# EAGLE library part AK500/10 (library con-ptr500+)
CONNECTOR
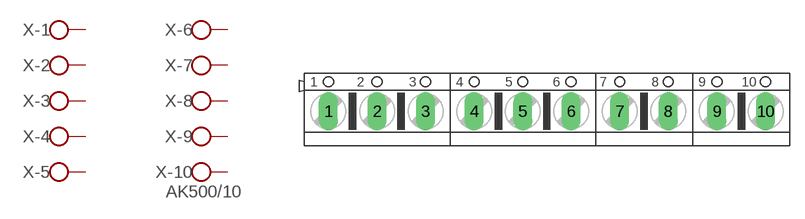
[diagram p11: symbol with the pads of AK500/10; footprint AK500/10]

Designator prefix X; gates -1=KL -2=KL -3=KL -4=KL -5=KL -6=KL -7=KL -8=KL -9=KL -10=KLV

## AK500/10  [AK500/10]
1  -1:KL  pas
2  -2:KL  pas
3  -3:KL  pas
4  -4:KL  pas
5  -5:KL  pas
6  -6:KL  pas
7  -7:KL  pas
8  -8:KL  pas
9  -9:KL  pas
10  -10:KL  pas

## Footprint AK500/10 (pad centres in mm)
CONNECTOR
drill 1.321 long: 1 -22.504,0; 2 -17.501,0; 3 -12.497,0; 4 -7.493,0; 5 -2.489,0; 6 2.489,0; 7 7.493,0; 8 12.497,0; 9 17.501,0; 10 22.504,0